# EAGLE library part TCA9548A (library TCA9548A)
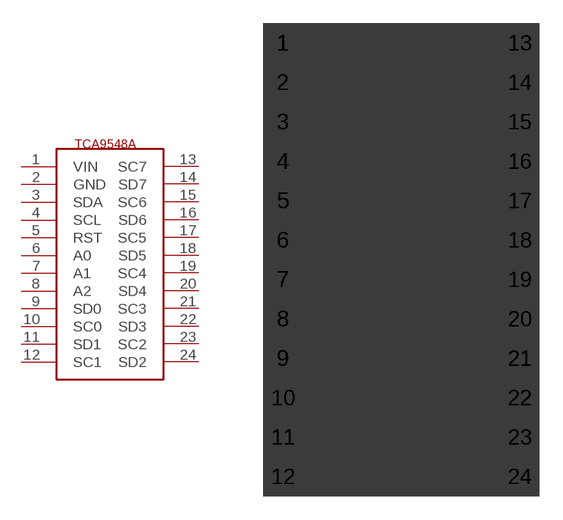
[diagram p0: symbol with the pads of TCA9548A; footprint TCA9548A]

Designator prefix -

## TCA9548A  [TCA9548A]
1  VIN
2  GND
3  SDA
4  SCL
5  RST
6  A0
7  A1
8  A2
9  SD0
10  SC0
11  SD1
12  SC1
13  SC7
14  SD7
15  SC6
16  SD6
17  SC5
18  SD5
19  SC4
20  SD4
21  SC3
22  SD3
23  SC2
24  SD2

## Footprint TCA9548A (pad centres in mm)
drill 1.001: 1 -7.614,13.976; 2 -7.614,11.436; 3 -7.614,8.896; 4 -7.614,6.356; 5 -7.614,3.816; 6 -7.614,1.276; 7 -7.614,-1.264; 8 -7.614,-3.804; 9 -7.614,-6.344; 10 -7.614,-8.884; 11 -7.614,-11.424; 12 -7.614,-13.964; 13 7.626,13.976; 14 7.626,11.436; 15 7.626,8.896; 16 7.626,6.356; 17 7.626,3.816; 18 7.626,1.276; 19 7.626,-1.264; 20 7.626,-3.804; 21 7.626,-6.344; 22 7.626,-8.884; 23 7.626,-11.424; 24 7.626,-13.964
hole 2.54 at 0,-12.7
hole 2.54 at 0,12.7